# EAGLE library part LT3042 (library cdp)
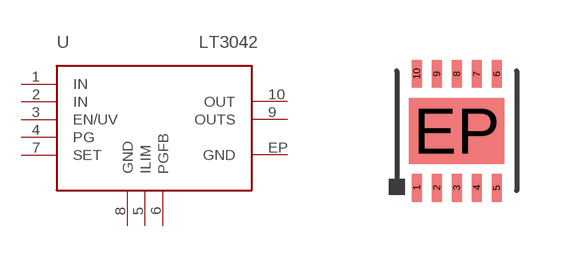
[diagram p47: symbol with the pads of DFN10; footprint DFN10]

Designator prefix U

## LT3042DD  [DFN10]
1  IN
2  IN
3  EN/UV
4  PG
5  ILIM
6  PGFB
7  SET
8  GND
9  OUTS
10  OUT
EP  GND

## Footprint DFN10 (pad centres in mm)
smd 0.25 x 0.7: 1 -1,-1.425; 2 -0.5,-1.425; 3 0,-1.425; 4 0.5,-1.425; 5 1,-1.425; 6 1,1.425; 7 0.5,1.425; 8 0,1.425; 9 -0.5,1.425; 10 -1,1.425
smd 2.38 x 1.65: EP 0,0